# Altium schematic symbol library M24SR04-Y.SchLib: 1 symbol
Pins are listed as number, name and electrical type; pins without a type are passive.

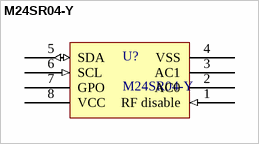
[diagram p0: symbol M24SR04-Y]

## M24SR04-Y
designator U?
Dynamic NFC/RFID tag IC with 4-Kbit EEPROM,   NFC Forum Type 4 Tag and I²C interface
footprint ST TSSOP-8 (TSSOP, 8-Leads, Body 3.00x4.40mm, Pitch 0.65mm, IPC Medium Density)
pins: 1 RF disable (in), 2 AC0, 3 AC1, 4 VSS (power), 5 SDA (io), 6 SCL (in), 7 GPO, 8 VCC (power)